# EAGLE library part PP140-80CBS2.75X3.00 (library NewSDR)
Leader Tech 2.75" x 3.00" x 0.4" Shield
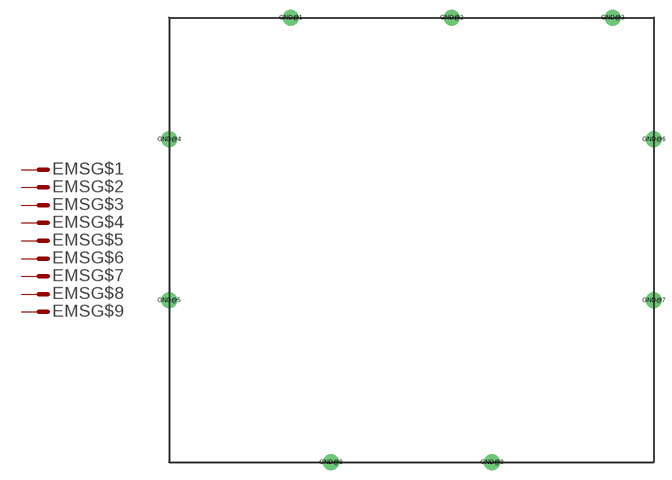
[diagram p123: symbol with the pads of PP140-80CBS2.75X3.00; footprint PP140-80CBS2.75X3.00]

Designator prefix EMS; gates G$1=M G$2=M G$3=M G$4=M G$5=M G$6=M G$7=M G$8=M G$9=M

## PP140-80CBS2.75X3.00  [PP140-80CBS2.75X3.00]
GND@1  G$1:M  pas
GND@2  G$2:M  pas
GND@3  G$3:M  pas
GND@4  G$4:M  pas
GND@5  G$5:M  pas
GND@6  G$6:M  pas
GND@7  G$7:M  pas
GND@8  G$8:M  pas
GND@9  G$9:M  pas

## Footprint PP140-80CBS2.75X3.00 (pad centres in mm)
drill 1.27 pad 2.54: GND@1 19.202,0; GND@2 44.602,0; GND@3 70.002,0; GND@4 0,-19.202; GND@5 0,-44.602; GND@6 76.505,-19.202; GND@7 76.505,-44.602; GND@8 25.552,-70.155; GND@9 50.952,-70.155